# Altium schematic symbol library TPD4EUSB30DQAR.SchLib: 1 symbol
Pins are listed as number, name and electrical type; pins without a type are passive.

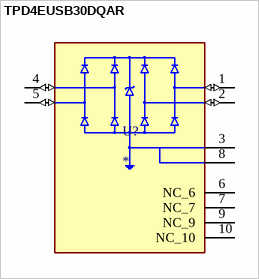
[diagram p0: symbol TPD4EUSB30DQAR]

## TPD4EUSB30DQAR
designator U?
4-channel ESD solution for SuperSpeed (6 Gbps) USB 3.0 interface 10-USON -40 to 85; MP: TPD4EUSB30DQAR; Value: *; Package: None; Price: None; Availability: Unavailable
footprint IC_TPD4EUSB30DQAR
pins: 1 D1+ (io), 2 D1- (io), 3 GND_3 (power), 4 D2+ (io), 5 D2- (io), 6 NC_6, 7 NC_7, 8 GND_8 (power), 9 NC_9, 10 NC_10